# EAGLE library part REG103GA-A (library REG103GA-A)
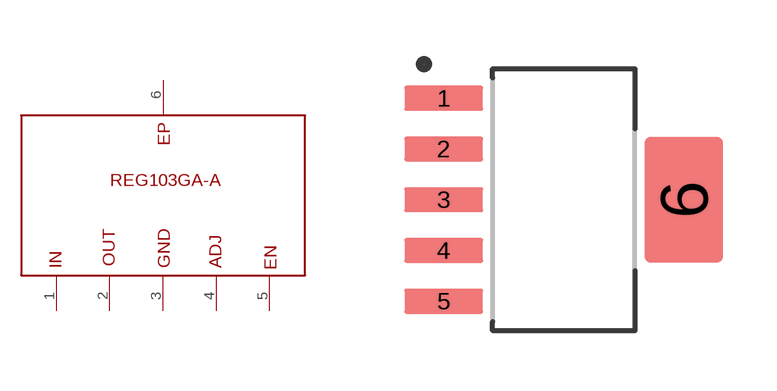
[diagram p0: symbol with the pads of SOT127P706X180-6N; footprint SOT127P706X180-6N]

Designator prefix -

## REG103GA-A  [SOT127P706X180-6N]
1  P$1
2  P$2
3  P$3
4  P$4
5  P$5
6  P$6

## Footprint SOT127P706X180-6N (pad centres in mm)
smd 1.97 x 0.62: 1 -3.005,2.54; 2 -3.005,1.27; 3 -3.005,0; 4 -3.005,-1.27; 5 -3.005,-2.54
smd 1.97 x 3.16: 6 3.005,0